# Altium footprint library PcbLib1.PcbLib: 46 footprints (part 2 of 3)
Each footprint in its own frame and in the unit in brackets; x right, y up, seen from the top. Pads: shape width x height; smd on the part's side, far side on the other; paste and mask are expansions set on the pad; w line width, h text height; cw(c..) or ccw(c..) is an arc to the next point about the centre after c.
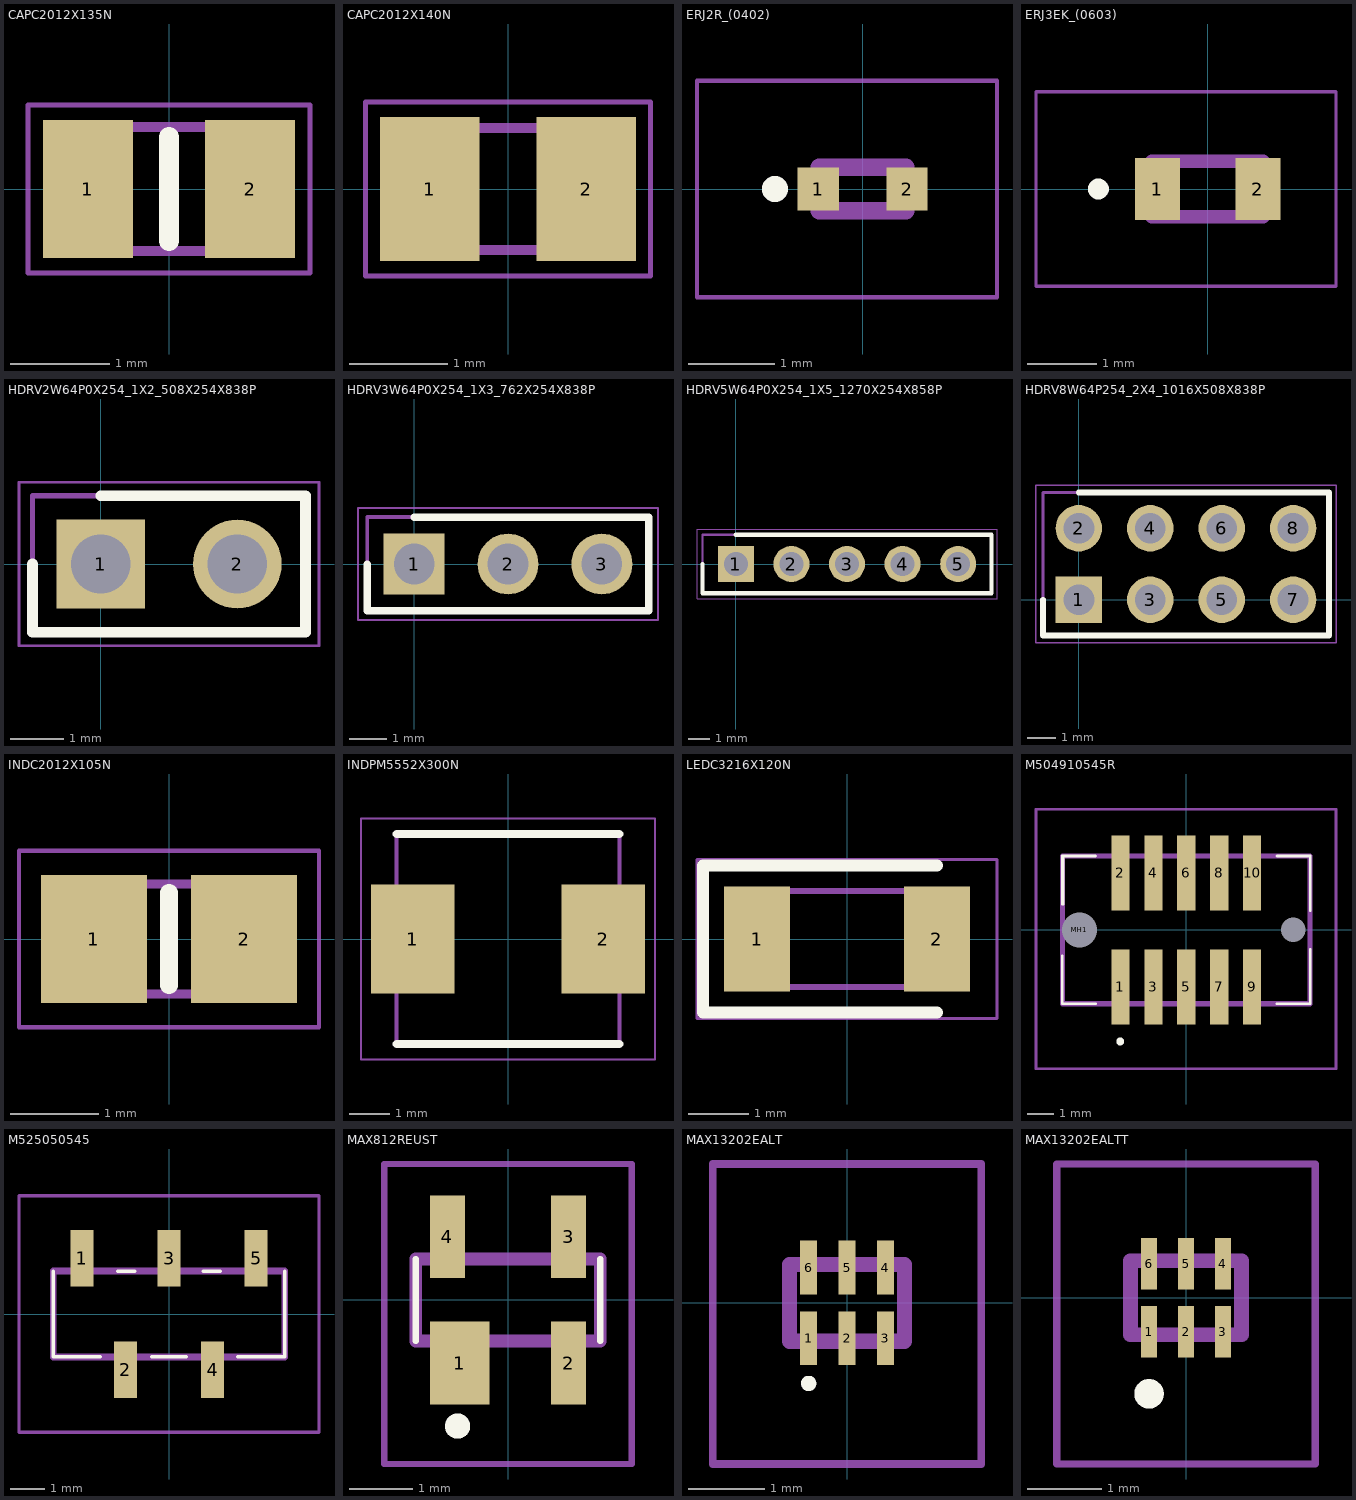
[diagram p1: the footprints below, top view; thin cyan lines are the x and y axes]

## CAPC2012X135N [mm]
pads (2):
  rect 0.91x1.39 smd: 1(-0.82,0) 2(0.82,0)
Top Overlay:
  lines w0.2: 0,-0.525 0,0.525
Mechanical 13:
  lines w0.1: -1,-0.625 -1,0.625 1,0.625 1,-0.625 -1,-0.625
Mechanical 15:
  lines w0.05: -1.425,-0.85 -1.425,0.85 1.425,0.85 1.425,-0.85 -1.425,-0.85
3D body "CL21C180JBANNNC.stp": height 1.35, standoff 0, extent -1,-0.625 1,0.625

## CAPC2012X140N [mm]
pads (2):
  rect 1.02x1.47 smd: 1(-0.8,0) 2(0.8,0)
Mechanical 13:
  lines w0.1: -1,-0.625 -1,0.625 1,0.625 1,-0.625 -1,-0.625
Mechanical 15:
  lines w0.05: -1.46,-0.89 -1.46,0.89 1.46,0.89 1.46,-0.89 -1.46,-0.89
3D body "C0805C106K8PACTU.stp": height 1.4, standoff 0, extent -1,-0.625 1,0.625

## ERJ2R_(0402) [mm]
pads (2):
  rect 0.475x0.5 smd: 1(-0.513,0) 2(0.513,0)
Top Overlay:
  circle w0.2: c-1.012,0 r0.05
Mechanical 13:
  lines w0.2: -0.5,-0.25 0.5,-0.25 0.5,0.25 -0.5,0.25 -0.5,-0.25
Mechanical 15:
  lines w0.05: -1.913,-1.25 1.55,-1.25 1.55,1.25 -1.913,1.25 -1.913,-1.25
3D body "ERJ-2RKF27R0X.stp": height 0.35, standoff 0, extent -0.5,-0.25 0.5,0.25

## ERJ3EK_(0603) [mm]
pads (2):
  rect 0.65x0.9 smd: 1(-0.725,0) 2(0.725,0)
Top Overlay:
  circle w0.2: c-1.575,0 r0.05
Mechanical 13:
  lines w0.2: -0.8,-0.4 -0.8,0.4 0.8,0.4 0.8,-0.4 -0.8,-0.4
Mechanical 15:
  lines w0.05: -2.475,-1.4 -2.475,1.4 1.85,1.4 1.85,-1.4 -2.475,-1.4
3D body "ERJ3EKF2701V.stp": height 0.45, standoff 0, extent -0.8,-0.4 0.8,0.4

## HDRV2W64P0X254_1X2_508X254X838P [mm]
pads (2):
  rect 1.65x1.65 hole 1.1: 1(0,0)
  round 1.65 hole 1.1: 2(2.54,0)
Top Overlay:
  lines w0.2: -1.27,0 -1.27,-1.27 3.81,-1.27 3.81,1.27 0,1.27
Mechanical 13:
  lines w0.1: -1.27,-1.27 3.81,-1.27 3.81,1.27 -1.27,1.27 -1.27,-1.27
Mechanical 15:
  lines w0.05: -1.52,-1.52 4.06,-1.52 4.06,1.52 -1.52,1.52 -1.52,-1.52
3D body "PEC02SAAN.stp": height 8.38, standoff -3.05, extent -1.27,-1.27 3.81,1.27

## HDRV3W64P0X254_1X3_762X254X838P [mm]
pads (3):
  rect 1.65x1.65 hole 1.1: 1(0,0)
  round 1.65 hole 1.1: 2(2.54,0) 3(5.08,0)
Top Overlay:
  lines w0.2: -1.27,0 -1.27,-1.27 6.35,-1.27 6.35,1.27 0,1.27
Mechanical 13:
  lines w0.1: -1.27,-1.27 -1.27,1.27 6.35,1.27 6.35,-1.27 -1.27,-1.27
Mechanical 15:
  lines w0.05: -1.52,-1.52 -1.52,1.52 6.6,1.52 6.6,-1.52 -1.52,-1.52
3D body "PEC03SAAN.stp": height 8.38, standoff -3.05, extent -1.27,-1.27 6.35,1.27

## HDRV5W64P0X254_1X5_1270X254X858P [mm]
pads (5):
  rect 1.65x1.65 hole 1.1: 1(0,0)
  round 1.65 hole 1.1: 2(2.54,0) 3(5.08,0) 4(7.62,0) 5(10.16,0)
Top Overlay:
  lines w0.2: -1.525,0 -1.525,-1.335 11.685,-1.335 11.685,1.335 0,1.335
Mechanical 13:
  lines w0.1: -1.525,-1.335 11.685,-1.335 11.685,1.335 -1.525,1.335 -1.525,-1.335
Mechanical 15:
  lines w0.05: -1.775,-1.585 11.935,-1.585 11.935,1.585 -1.775,1.585 -1.775,-1.585
3D body "PEC05SAAN.stp": height 8.58, standoff -3.3, extent -1.27,-1.27 11.43,1.27

## HDRV8W64P254_2X4_1016X508X838P [mm]
pads (8):
  rect 1.65x1.65 hole 1.1: 1(0,0)
  round 1.65 hole 1.1: 2(0,2.54) 3(2.54,0) 4(2.54,2.54) 5(5.08,0) 6(5.08,2.54) 7(7.62,0) 8(7.62,2.54)
Top Overlay:
  lines w0.2: -1.27,0 -1.27,-1.27 8.89,-1.27 8.89,3.81 0,3.81
Mechanical 13:
  lines w0.1: -1.27,-1.27 8.89,-1.27 8.89,3.81 -1.27,3.81 -1.27,-1.27
Mechanical 15:
  lines w0.05: -1.52,-1.52 9.14,-1.52 9.14,4.06 -1.52,4.06 -1.52,-1.52
3D body "PEC04DAAN.stp": height 8.38, standoff -3.3, extent -1.27,-1.27 8.89,3.81

## INDC2012X105N [mm]
pads (2):
  rect 1.2x1.45 smd: 1(-0.85,0) 2(0.85,0)
Top Overlay:
  lines w0.2: 0,-0.525 0,0.525
Mechanical 13:
  lines w0.1: -1,-0.625 -1,0.625 1,0.625 1,-0.625 -1,-0.625
Mechanical 15:
  lines w0.05: -1.7,-1 -1.7,1 1.7,1 1.7,-1 -1.7,-1
3D body "MLP2012H2R2MT0S1.stp": height 1.05, standoff 0, extent -1,-0.625 1,0.625

## INDPM5552X300N [mm]
pads (2):
  rect 2.05x2.7 smd: 1(-2.35,0) 2(2.35,0)
Top Overlay:
  lines w0.2: -2.745,-2.59 2.745,-2.59 ; -2.745,2.59 2.745,2.59
Mechanical 13:
  lines w0.1: -2.745,-2.59 -2.745,2.59 2.745,2.59 2.745,-2.59 -2.745,-2.59
Mechanical 15:
  lines w0.05: -3.625,-2.967 -3.625,2.967 3.625,2.967 3.625,-2.967 -3.625,-2.967
3D body "IHLP2020CZER1R0M8A.stp": height 2.86, standoff 0, extent -2.721,-2.571 2.73,2.575

## LEDC3216X120N [mm]
pads (2):
  rect 1.1x1.75 smd: 1(-1.5,0) 2(1.5,0)
Top Overlay:
  lines w0.2: 1.5,-1.225 -2.4,-1.225 -2.4,1.225 1.5,1.225
Mechanical 13:
  lines w0.1: -1.6,0.267 -1.067,0.8 ; -1.6,-0.8 1.6,-0.8 1.6,0.8 -1.6,0.8 -1.6,-0.8
Mechanical 15:
  lines w0.05: -2.5,-1.325 2.5,-1.325 2.5,1.325 -2.5,1.325 -2.5,-1.325

## M504910545R [mm]
pads (12):
  rect 0.7x2.9 smd: 1(-2.54,-2.2) 2(-2.54,2.2) 3(-1.27,-2.2) 4(-1.27,2.2) 5(0,-2.2) 6(0,2.2) 7(1.27,-2.2) 8(1.27,2.2) 9(2.54,-2.2) 10(2.54,2.2)
  round 0.675 hole 1.35 unplated: MH1(-4.12,0)
  round 0.475 hole 0.95 unplated: MH2(4.12,0)
Top Overlay:
  lines w0.1: -4.775,-2.85 -3.5,-2.85 -4.775,-2.85 ; -4.775,-2.85 -4.775,-1 -4.775,-2.85 ; -4.75,2.85 -4.75,1 -4.775,1 -4.775,2.85 -4.75,2.85 ; -4.75,2.85 -3.5,2.85 -4.75,2.85 ; 4.775,-2.85 3.5,-2.85 4.775,-2.85 ; 4.775,-2.85 4.775,-0.75 4.775,-2.85 ; 4.775,2.85 4.775,0.75 4.775,2.85 ; 4.775,2.85 3.5,2.85 4.775,2.85
  lines w0.2: -2.6,-4.3 ccw(c-2.55,-4.3) -2.5,-4.3 ; -2.6,-4.3 cw(c-2.55,-4.3) -2.5,-4.3 ; -2.6,-4.3 ccw(c-2.55,-4.3) -2.5,-4.3
Mechanical 13:
  lines w0.2: -4.775,-2.85 -4.775,2.85 4.775,2.85 4.775,-2.85 -4.775,-2.85
Mechanical 15:
  lines w0.1: -5.795,-5.35 -5.795,4.65 5.775,4.65 5.775,-5.35 -5.795,-5.35
3D body "M50-4910545R.stp": height 6.45, standoff -1.7, extent -4.775,-3.58 4.775,3.58

## M525050545 [mm]
pads (5):
  rect 0.68x1.65 smd: 1(-2.54,1.625) 2(-1.27,-1.625) 3(0,1.625) 4(1.27,-1.625) 5(2.54,1.625)
Top Overlay:
  lines w0.1: -3.375,1.25 -3.375,-1.25 -2,-1.25 ; -1.5,1.25 -1,1.25 ; -0.5,-1.25 0.5,-1.25 ; 1,1.25 1.5,1.25 ; 2,-1.25 3.375,-1.25 3.375,1.25
Mechanical 13:
  lines w0.2: -3.375,-1.25 3.375,-1.25 3.375,1.25 -3.375,1.25 -3.375,-1.25
Mechanical 15:
  lines w0.1: -4.375,-3.45 4.375,-3.45 4.375,3.45 -4.375,3.45 -4.375,-3.45
3D body "M52-5050545.stp": height 5.8, standoff 0, extent -3.375,-2.382 3.375,2.382

## MAX812REUST [mm]
pads (4):
  rect 0.94x1.31 smd: 1(-0.765,-1)
  rect 0.55x1.31 smd: 2(0.96,-1) 3(0.96,1) 4(-0.96,1)
Top Overlay:
  lines w0.1: -1.46,-0.65 -1.46,0.65 ; 1.46,-0.65 1.46,0.65
  lines w0.2: -0.9,-2 cw(c-0.8,-2) -0.7,-2 cw(c-0.8,-2) -0.9,-2
Mechanical 13:
  lines w0.2: -1.46,-0.65 1.46,-0.65 1.46,0.65 -1.46,0.65 -1.46,-0.65
Mechanical 15:
  lines w0.1: -1.96,-2.6 1.96,-2.6 1.96,2.155 -1.96,2.155 -1.96,-2.6
3D body "MAX6816EUS+T.stp": height 1.32, standoff 0, extent -1.46,-0.65 1.46,0.65

## MAX13202EALT [mm]
pads (6):
  rect 0.22x0.7 smd: 1(-0.5,-0.46) 2(0,-0.46) 3(0.5,-0.46) 4(0.5,0.46) 5(0,0.46) 6(-0.5,0.46)
Top Overlay:
  lines w0.1: -0.5,-1.1 cw(c-0.5,-1.05) -0.5,-1 cw(c-0.5,-1.05) -0.5,-1.1
Mechanical 13:
  lines w0.2: -0.75,-0.5 0.75,-0.5 0.75,0.5 -0.75,0.5 -0.75,-0.5
Mechanical 15:
  lines w0.1: -1.75,-2.1 1.75,-2.1 1.75,1.81 -1.75,1.81 -1.75,-2.1
3D body "MAX13202EALT+.stp": height 0.9, standoff 0, extent -0.75,-0.5 0.75,0.5

## MAX13202EALTT [mm]
pads (6):
  rect 0.22x0.7 smd: 1(-0.5,-0.46) 2(0,-0.46) 3(0.5,-0.46) 4(0.5,0.46) 5(0,0.46) 6(-0.5,0.46)
Top Overlay:
  lines w0.2: -0.6,-1.3 cw(c-0.5,-1.3) -0.4,-1.3 cw(c-0.5,-1.3) -0.6,-1.3
Mechanical 13:
  lines w0.2: -0.75,-0.5 -0.75,0.5 0.75,0.5 0.75,-0.5 -0.75,-0.5
Mechanical 15:
  lines w0.1: -1.75,-2.25 -1.75,1.81 1.75,1.81 1.75,-2.25 -1.75,-2.25
3D body "MAX13202EALT+T.stp": height 0.9, standoff 0, extent -0.75,-0.5 0.75,0.5